# Altium footprint library NPN_SOT_23_Transistor.PcbLib: 1 footprints
Each footprint in its own frame and in the unit in brackets; x right, y up, seen from the top. Pads: shape width x height; smd on the part's side, far side on the other; paste and mask are expansions set on the pad; w line width, h text height; cw(c..) or ccw(c..) is an arc to the next point about the centre after c.
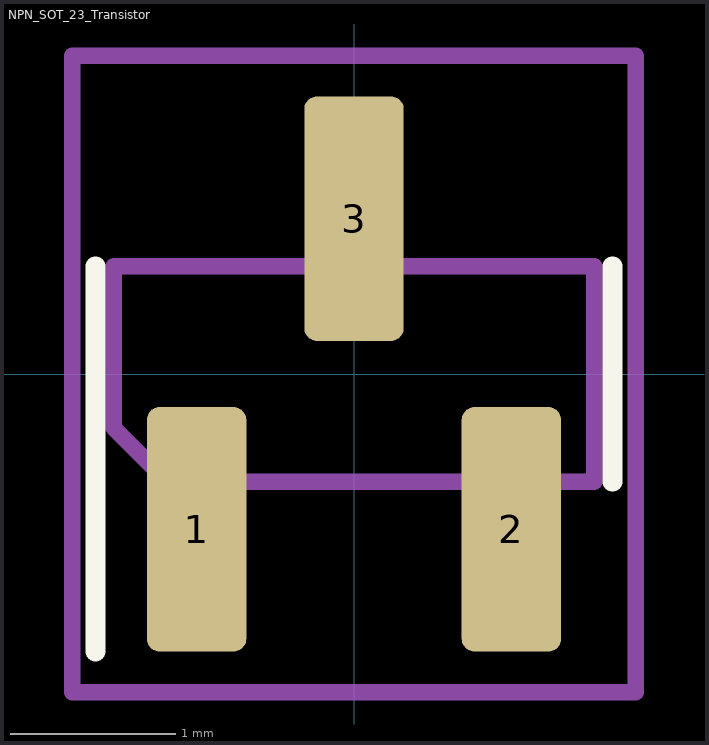
[diagram p0: the footprint, top view; thin cyan lines are the x and y axes]

## NPN_SOT_23_Transistor [mm]
pads (3):
  rrect25% 0.6x1.475 smd: 1(-0.95,-0.937) 2(0.95,-0.937) 3(0,0.937)
Top Overlay:
  lines w0.12: -1.56,-1.675 -1.56,0 -1.56,0.65 ; 1.56,-0.65 1.56,0 1.56,0.65
Mechanical 1:
  lines w0.1: -1.7,-1.92 1.7,-1.92 1.7,1.92 -1.7,1.92 -1.7,-1.92 ; -1.45,-0.325 -1.125,-0.65 1.45,-0.65 1.45,0.65 -1.45,0.65 -1.45,-0.325
  text ".Designator" at 0,0.188 h1
Mechanical 15:
  text "+" at 0.5,-0.333 h1
3D body "SOT23-3.stp": height 1.2, standoff 0.02, extent -1.5,-1.418 1.5,1.418